# Altium schematic symbol library CM4.Schlib: 1 symbol
Pins are listed as number, name and electrical type; pins without a type are passive.

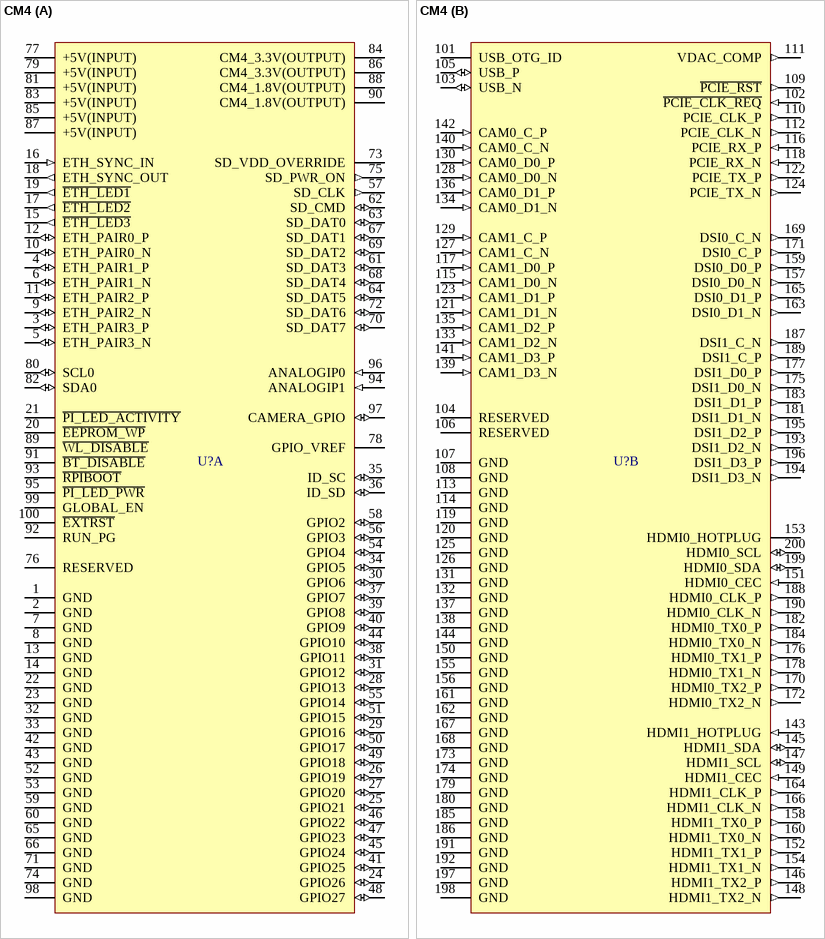
[diagram p0: symbol CM4]

## CM4
designator U?
RPI MODULE 4, 8GB EMMC
part A pins: 1 GND (power), 2 GND (power), 3 ETH_PAIR3_P (io), 4 ETH_PAIR1_P (io), 5 ETH_PAIR3_N (io), 6 ETH_PAIR1_N (io), 7 GND (power), 8 GND (power), 9 ETH_PAIR2_N (io), 10 ETH_PAIR0_N (io), 11 ETH_PAIR2_P (io), 12 ETH_PAIR0_P (io), 13 GND (power), 14 GND (power), 15 ~{ETH_LED3} (out), 16 ETH_SYNC_IN (in), 17 ~{ETH_LED2} (out), 18 ETH_SYNC_OUT (out), 19 ~{ETH_LED1} (out), 20 ~{EEPROM_WP}, 21 ~{PI_LED_ACTIVITY}, 22 GND (power), 23 GND (power), 24 GPIO26 (io), 25 GPIO21 (io), 26 GPIO19 (io), 27 GPIO20 (io), 28 GPIO13 (io), 29 GPIO16 (io), 30 GPIO6 (io), 31 GPIO12 (io), 32 GND (power), 33 GND (power), 34 GPIO5 (io), 35 ID_SC (io), 36 ID_SD (io), 37 GPIO7 (io), 38 GPIO11 (io), 39 GPIO8 (io), 40 GPIO9 (io), 41 GPIO25 (io), 42 GND (power), 43 GND (power), 44 GPIO10 (io), 45 GPIO24 (io), 46 GPIO22 (io), 47 GPIO23 (io), 48 GPIO27 (io), 49 GPIO18 (io), 50 GPIO17 (io), 51 GPIO15 (io), 52 GND (power), 53 GND (power), 54 GPIO4 (io), 55 GPIO14 (io), 56 GPIO3 (io), 57 SD_CLK (out), 58 GPIO2 (io), 59 GND (power), 60 GND (power), 61 SD_DAT3 (io), 62 SD_CMD (io), 63 SD_DAT0 (io), 64 SD_DAT5 (io), 65 GND (power), 66 GND (power), 67 SD_DAT1 (io), 68 SD_DAT4 (io), 69 SD_DAT2 (io), 70 SD_DAT7 (io), 71 GND (power), 72 SD_DAT6 (io), 73 SD_VDD_OVERRIDE, 74 GND (power), 75 SD_PWR_ON (out), 76 RESERVED, 77 +5V(INPUT) (power), 78 GPIO_VREF (power), 79 +5V(INPUT) (power), 80 SCL0 (io), 81 +5V(INPUT) (power), 82 SDA0 (io), 83 +5V(INPUT) (power), 84 CM4_3.3V(OUTPUT) (power), 85 +5V(INPUT) (power), 86 CM4_3.3V(OUTPUT) (power), 87 +5V(INPUT) (power), 88 CM4_1.8V(OUTPUT) (power), 89 ~{WL_DISABLE}, 90 CM4_1.8V(OUTPUT) (power), 91 ~{BT_DISABLE}, 92 RUN_PG, 93 ~{RPIBOOT}, 94 ANALOGIP1 (in), 95 ~{PI_LED_PWR}, 96 ANALOGIP0 (in), 97 CAMERA_GPIO (io), 98 GND (power), 99 GLOBAL_EN, 100 ~{EXTRST}
part B pins: 101 USB_OTG_ID, 102 ~{PCIE_CLK_REQ} (in), 103 USB_N (io), 104 RESERVED, 105 USB_P (io), 106 RESERVED, 107 GND (power), 108 GND (power), 109 ~{PCIE_RST} (out), 110 PCIE_CLK_P (out), 111 VDAC_COMP (out), 112 PCIE_CLK_N (out), 113 GND (power), 114 GND (power), 115 CAM1_D0_N (in), 116 PCIE_RX_P (in), 117 CAM1_D0_P (in), 118 PCIE_RX_N (in), 119 GND (power), 120 GND (power), 121 CAM1_D1_N (in), 122 PCIE_TX_P (out), 123 CAM1_D1_P (in), 124 PCIE_TX_N (out), 125 GND (power), 126 GND (power), 127 CAM1_C_N (in), 128 CAM0_D0_N (in), 129 CAM1_C_P (in), 130 CAM0_D0_P (in), 131 GND (power), 132 GND (power), 133 CAM1_D2_N (in), 134 CAM0_D1_N (in), 135 CAM1_D2_P (in), 136 CAM0_D1_P (in), 137 GND (power), 138 GND (power), 139 CAM1_D3_N (in), 140 CAM0_C_N (in), 141 CAM1_D3_P (in), 142 CAM0_C_P (in), 143 HDMI1_HOTPLUG (in), 144 GND (power), 145 HDMI1_SDA (io), 146 HDMI1_TX2_P (out), 147 HDMI1_SCL (io), 148 HDMI1_TX2_N (out), 149 HDMI1_CEC (in), 150 GND (power), 151 HDMI0_CEC (in), 152 HDMI1_TX1_P (out), 153 HDMI0_HOTPLUG, 154 HDMI1_TX1_N (out), 155 GND (power), 156 GND (power), 157 DSI0_D0_N (out), 158 HDMI1_TX0_P (out), 159 DSI0_D0_P (out), 160 HDMI1_TX0_N (out), 161 GND (power), 162 GND (power), 163 DSI0_D1_N (out), 164 HDMI1_CLK_P (out), 165 DSI0_D1_P (out), 166 HDMI1_CLK_N (out), 167 GND (power), 168 GND (power), 169 DSI0_C_N (out), 170 HDMI0_TX2_P (out), 171 DSI0_C_P (out), 172 HDMI0_TX2_N (out), 173 GND (power), 174 GND (power), 175 DSI1_D0_N (out), 176 HDMI0_TX1_P (out), 177 DSI1_D0_P (out), 178 HDMI0_TX1_N (out), 179 GND (power), 180 GND (power), 181 DSI1_D1_N (out), 182 HDMI0_TX0_P (out), 183 DSI1_D1_P (out), 184 HDMI0_TX0_N (out), 185 GND (power), 186 GND (power), 187 DSI1_C_N (out), 188 HDMI0_CLK_P (out), 189 DSI1_C_P (out), 190 HDMI0_CLK_N (out), 191 GND (power), 192 GND (power), 193 DSI1_D2_N (out), 194 DSI1_D3_N (out), 195 DSI1_D2_P (out), 196 DSI1_D3_P (out), 197 GND (power), 198 GND (power), 199 HDMI0_SDA (io), 200 HDMI0_SCL (io)